# Altium footprint library KF terminal block.PcbLib: 57 footprints (part 4 of 4)
Each footprint in its own frame and in the unit in brackets; x right, y up, seen from the top. Pads: shape width x height; smd on the part's side, far side on the other; paste and mask are expansions set on the pad; w line width, h text height; cw(c..) or ccw(c..) is an arc to the next point about the centre after c.
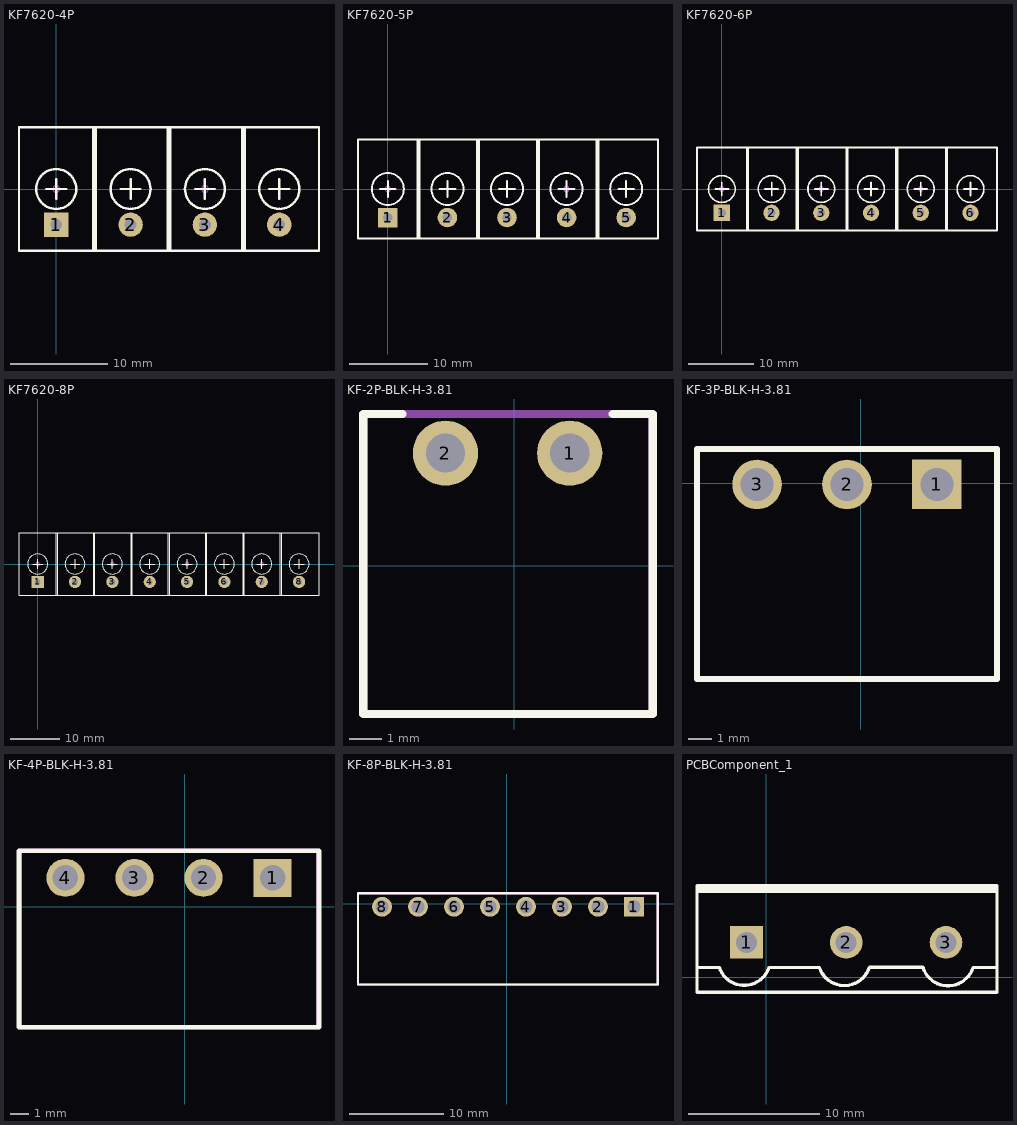
[diagram p3: the footprints below, top view; thin cyan lines are the x and y axes]

## KF7620-4P [mm] "30.5*12*12mm(ï¿½ï¿½ï¿½ï¿½ï¿½)"
pads (4):
  rect 2.5x2.5 hole 1.2: 1(0,-3.65)
  round 2.5 hole 1.2: 2(7.62,-3.65) 3(15.24,-3.65) 4(22.86,-3.65)
Top Overlay:
  circle w0.254: c7.62,0 r2.048
  circle w0.254: c0,0 r2.048
  circle w0.254: c15.24,0 r2.048
  circle w0.254: c22.86,0 r2.048
  lines w0.254: -1.016,0 1.016,0 ; 0,-1.016 0,1.016 ; 3.81,-6.35 3.81,6.35 ; 4.064,6.35 4.064,-6.35 4.318,-6.35 ; 6.604,0 8.636,0 ; 7.62,-1.016 7.62,1.016 ; 14.224,0 16.256,0 ; 15.24,-1.016 15.24,1.016 ; 19.05,-6.35 19.05,6.35 ; 19.304,6.35 19.304,-6.35 19.558,-6.35 ; 21.844,0 23.876,0 ; 22.86,-1.016 22.86,1.016 ; -3.81,-6.35 -3.81,6.35 11.684,6.35 11.684,-6.35 -3.81,-6.35 ; 11.43,-6.35 26.924,-6.35 26.924,6.35 11.43,6.35 11.43,-6.35
Mechanical 15:
  circle w0.05: c0,0 r0.35
  circle w0.05: c15.24,0 r0.35
  lines w0.05: -0.5,0 0.5,0 ; 0,-0.5 0,0.5 ; 14.74,0 15.74,0 ; 15.24,-0.5 15.24,0.5
3D body "KF7620.STEP": height 12.45, standoff -3.45, extent -3.81,-6.2 4.51,6.2
3D body "KF7620.STEP": height 12.45, standoff -3.45, extent 3.81,-6.2 12.13,6.2
3D body "KF7620.STEP": height 12.45, standoff -3.45, extent 19.05,-6.2 27.37,6.2
3D body "KF7620.STEP": height 12.45, standoff -3.45, extent 11.43,-6.2 19.75,6.2

## KF7620-5P [mm] "38.1*12*12mm(ï¿½ï¿½ï¿½ï¿½ï¿½)"
pads (5):
  rect 2.5x2.5 hole 1.2: 1(0,-3.65)
  round 2.5 hole 1.2: 2(7.62,-3.65) 3(15.24,-3.65) 4(22.86,-3.65) 5(30.48,-3.65)
Top Overlay:
  circle w0.254: c22.86,0 r2.048
  circle w0.254: c30.48,0 r2.048
  circle w0.254: c0,0 r2.048
  circle w0.254: c7.62,0 r2.048
  circle w0.254: c15.24,0 r2.048
  lines w0.254: -1.016,0 1.016,0 ; 0,-1.016 0,1.016 ; 3.81,-6.35 3.81,6.35 ; 4.064,6.35 4.064,-6.35 4.318,-6.35 ; 6.604,0 8.636,0 ; 7.62,-1.016 7.62,1.016 ; 11.43,-6.35 11.43,6.35 ; 14.224,0 16.256,0 ; 15.24,-1.016 15.24,1.016 ; 21.844,0 23.876,0 ; 22.86,-1.016 22.86,1.016 ; 26.67,-6.35 26.67,6.35 ; 26.924,6.35 26.924,-6.35 27.178,-6.35 ; 29.464,0 31.496,0 ; 30.48,-1.016 30.48,1.016 ; 11.684,-6.35 11.684,6.35 ; 11.684,-6.35 -3.81,-6.35 -3.81,6.35 11.684,6.35 ; 11.684,-6.35 19.304,-6.35 19.304,6.35 11.684,6.35 ; 19.05,-6.35 34.544,-6.35 34.544,6.35 19.05,6.35 19.05,-6.35
Mechanical 15:
  circle w0.05: c22.86,0 r0.35
  circle w0.05: c0,0 r0.35
  lines w0.05: -0.5,0 0.5,0 ; 0,-0.5 0,0.5 ; 22.36,0 23.36,0 ; 22.86,-0.5 22.86,0.5
3D body "KF7620.STEP": height 12.45, standoff -3.45, extent 26.67,-6.2 34.99,6.2
3D body "KF7620.STEP": height 12.45, standoff -3.45, extent 19.05,-6.2 27.37,6.2
3D body "KF7620.STEP": height 12.45, standoff -3.45, extent 3.81,-6.2 12.13,6.2
3D body "KF7620.STEP": height 12.45, standoff -3.45, extent -3.81,-6.2 4.51,6.2
3D body "KF7620.STEP": height 12.45, standoff -3.45, extent 11.43,-6.2 19.75,6.2

## KF7620-6P [mm] "45.7*12*12mm(ï¿½ï¿½ï¿½ï¿½ï¿½)"
pads (6):
  rect 2.5x2.5 hole 1.2: 1(0,-3.65)
  round 2.5 hole 1.2: 2(7.62,-3.65) 3(15.24,-3.65) 4(22.86,-3.65) 5(30.48,-3.65) 6(38.1,-3.65)
Top Overlay:
  circle w0.254: c30.48,0 r2.048
  circle w0.254: c38.1,0 r2.048
  circle w0.254: c7.62,0 r2.048
  circle w0.254: c0,0 r2.048
  circle w0.254: c15.24,0 r2.048
  circle w0.254: c22.86,0 r2.048
  lines w0.254: -1.016,0 1.016,0 ; 0,-1.016 0,1.016 ; 3.81,-6.35 3.81,6.35 ; 4.064,6.35 4.064,-6.35 4.318,-6.35 ; 6.604,0 8.636,0 ; 7.62,-1.016 7.62,1.016 ; 14.224,0 16.256,0 ; 15.24,-1.016 15.24,1.016 ; 19.05,-6.35 19.05,6.35 ; 19.304,6.35 19.304,-6.35 19.558,-6.35 ; 21.844,0 23.876,0 ; 22.86,-1.016 22.86,1.016 ; 29.464,0 31.496,0 ; 30.48,-1.016 30.48,1.016 ; 34.29,-6.35 34.29,6.35 ; 34.544,6.35 34.544,-6.35 34.798,-6.35 ; 37.084,0 39.116,0 ; 38.1,-1.016 38.1,1.016 ; -3.81,-6.35 -3.81,6.35 11.684,6.35 11.684,-6.35 -3.81,-6.35 ; 11.43,-6.35 26.924,-6.35 26.924,6.35 11.43,6.35 11.43,-6.35 ; 26.67,-6.35 42.164,-6.35 42.164,6.35 26.67,6.35 26.67,-6.35
Mechanical 15:
  circle w0.05: c30.48,0 r0.35
  circle w0.05: c0,0 r0.35
  circle w0.05: c15.24,0 r0.35
  lines w0.05: -0.5,0 0.5,0 ; 0,-0.5 0,0.5 ; 14.74,0 15.74,0 ; 15.24,-0.5 15.24,0.5 ; 29.98,0 30.98,0 ; 30.48,-0.5 30.48,0.5
3D body "KF7620.STEP": height 12.45, standoff -3.45, extent 34.29,-6.2 42.61,6.2
3D body "KF7620.STEP": height 12.45, standoff -3.45, extent 26.67,-6.2 34.99,6.2
3D body "KF7620.STEP": height 12.45, standoff -3.45, extent -3.81,-6.2 4.51,6.2
3D body "KF7620.STEP": height 12.45, standoff -3.45, extent 3.81,-6.2 12.13,6.2
3D body "KF7620.STEP": height 12.45, standoff -3.45, extent 19.05,-6.2 27.37,6.2
3D body "KF7620.STEP": height 12.45, standoff -3.45, extent 11.43,-6.2 19.75,6.2

## KF7620-8P [mm] "61*12*12mm(ï¿½ï¿½ï¿½ï¿½ï¿½)"
pads (8):
  rect 2.5x2.5 hole 1.2: 1(0,-3.65)
  round 2.5 hole 1.2: 2(7.62,-3.65) 3(15.24,-3.65) 4(22.86,-3.65) 5(30.48,-3.65) 6(38.1,-3.65) 7(45.72,-3.65) 8(53.34,-3.65)
Top Overlay:
  circle w0.254: c53.34,0 r2.048
  circle w0.254: c45.72,0 r2.048
  circle w0.254: c30.48,0 r2.048
  circle w0.254: c38.1,0 r2.048
  circle w0.254: c7.62,0 r2.048
  circle w0.254: c0,0 r2.048
  circle w0.254: c15.24,0 r2.048
  circle w0.254: c22.86,0 r2.048
  lines w0.254: -1.016,0 1.016,0 ; 0,-1.016 0,1.016 ; 3.81,-6.35 3.81,6.35 ; 4.064,6.35 4.064,-6.35 4.318,-6.35 ; 6.604,0 8.636,0 ; 7.62,-1.016 7.62,1.016 ; 14.224,0 16.256,0 ; 15.24,-1.016 15.24,1.016 ; 19.05,-6.35 19.05,6.35 ; 19.304,6.35 19.304,-6.35 19.558,-6.35 ; 21.844,0 23.876,0 ; 22.86,-1.016 22.86,1.016 ; 29.464,0 31.496,0 ; 30.48,-1.016 30.48,1.016 ; 34.29,-6.35 34.29,6.35 ; 34.544,6.35 34.544,-6.35 34.798,-6.35 ; 37.084,0 39.116,0 ; 38.1,-1.016 38.1,1.016 ; 44.704,0 46.736,0 ; 45.72,-1.016 45.72,1.016 ; 49.53,-6.35 49.53,6.35 ; 49.784,6.35 49.784,-6.35 50.038,-6.35 ; 52.324,0 54.356,0 ; 53.34,-1.016 53.34,1.016 ; -3.81,-6.35 -3.81,6.35 11.684,6.35 11.684,-6.35 -3.81,-6.35 ; 11.43,-6.35 26.924,-6.35 26.924,6.35 11.43,6.35 11.43,-6.35 ; 26.67,-6.35 42.164,-6.35 42.164,6.35 26.67,6.35 26.67,-6.35 ; 41.91,-6.35 41.91,6.35 57.404,6.35 57.404,-6.35 41.91,-6.35
Mechanical 15:
  circle w0.05: c45.72,0 r0.35
  circle w0.05: c30.48,0 r0.35
  circle w0.05: c0,0 r0.35
  circle w0.05: c15.24,0 r0.35
  lines w0.05: -0.5,0 0.5,0 ; 0,-0.5 0,0.5 ; 14.74,0 15.74,0 ; 15.24,-0.5 15.24,0.5 ; 29.98,0 30.98,0 ; 30.48,-0.5 30.48,0.5 ; 45.22,0 46.22,0 ; 45.72,-0.5 45.72,0.5
3D body "KF7620.STEP": height 12.45, standoff -3.45, extent 41.91,-6.2 50.23,6.2
3D body "KF7620.STEP": height 12.45, standoff -3.45, extent 49.53,-6.2 57.85,6.2
3D body "KF7620.STEP": height 12.45, standoff -3.45, extent 34.29,-6.2 42.61,6.2
3D body "KF7620.STEP": height 12.45, standoff -3.45, extent 26.67,-6.2 34.99,6.2
3D body "KF7620.STEP": height 12.45, standoff -3.45, extent -3.81,-6.2 4.51,6.2
3D body "KF7620.STEP": height 12.45, standoff -3.45, extent 3.81,-6.2 12.13,6.2
3D body "KF7620.STEP": height 12.45, standoff -3.45, extent 19.05,-6.2 27.37,6.2
3D body "KF7620.STEP": height 12.45, standoff -3.45, extent 11.43,-6.2 19.75,6.2

## KF-2P-BLK-H-3.81 [mm]
pads (2):
  round 2 hole 1.2: 1(1.705,3.458) 2(-2.105,3.458)
Top Overlay:
  lines w0.254: -3.425,4.658 -4.625,4.658 -4.625,-4.542 4.25,-4.542 4.25,4.658 3.025,4.658
Mechanical 13:
  lines w0.254: -4.625,-4.542 -4.625,4.658 4.25,4.658 4.25,-4.542 -4.625,-4.542
3D body "CUI_DEVICES_TBP02R1-381-02BK.step": height 7.3, standoff -3.4, extent -4.38,-4.5 4.03,4.7

## KF-3P-BLK-H-3.81 [mm]
pads (3):
  rect 2.1x2.1 hole 1.4: 1(3.231,-0.054)
  round 2.1 hole 1.4: 2(-0.579,-0.054) 3(-4.389,-0.054)
Top Overlay:
  lines w0.254: -6.939,-8.304 5.781,-8.304 5.781,1.45 -5.689,1.45 -6.939,1.45 -6.939,-8.304
Mechanical 13:
  lines w0.254: -6.939,-8.304 -6.939,1.45 5.781,1.45 5.781,-8.304 -6.939,-8.304
Mechanical 15:
  lines w0.254: -6.939,-8.304 -6.939,1.45 5.781,1.45 5.781,-8.304 -6.939,-8.304
3D body "CUI_DEVICES_TBP02R1-381-03BK.step": height 7.2, standoff -3.5, extent -6.685,-8.05 5.535,1.15

## KF-4P-BLK-H-3.81 [mm]
pads (4):
  rect 2.1x2.1 hole 1.4: 1(4.839,1.6)
  round 2.1 hole 1.4: 2(1.029,1.6) 3(-2.781,1.6) 4(-6.591,1.6)
Top Overlay:
  lines w0.254: -9.15,-6.65 7.4,-6.65 7.4,3.1 -7.891,3.1 -9.15,3.1 -9.15,-6.65
Mechanical 13:
  lines w0.254: -9.125,-6.65 -9.125,3.1 7.375,3.1 7.375,-6.65 -9.125,-6.65
Mechanical 15:
  lines w0.254: -9.141,-6.65 -9.141,3.1 7.389,3.1 7.389,-6.65 -9.141,-6.65
3D body "CUI_DEVICES_TBP02R1-381-04BK.step": height 7.2, standoff -3.5, extent -8.865,-6.425 7.165,2.775

## KF-8P-BLK-H-3.81 [mm]
pads (8):
  rect 2.1x2.1 hole 1.4: 1(13.467,-0.329)
  round 2.1 hole 1.4: 2(9.657,-0.329) 3(5.847,-0.329) 4(2.037,-0.329) 5(-1.773,-0.329) 6(-5.583,-0.329) 7(-9.393,-0.329) 8(-13.203,-0.329)
Top Overlay:
  lines w0.254: 14.767,1.075 16,1.075 ; 16,1.075 16,-8.575 -15.75,-8.575 -15.75,1.075 16,1.075
Mechanical 13:
  lines w0.254: -15.75,0.871 -15.75,-8.575 16,-8.575 16,0.871
Mechanical 15:
  lines w0.254: -15.753,-8.579 16.017,-8.579 16.017,1.075 -15.753,1.075 -15.753,-8.579
3D body "CUI_DEVICES_TBP02R1-381-08BK.step": height 7.2, standoff -3.5, extent -15.56,-8.125 15.71,1.075

## PCBComponent_1 [mm]
pads (3):
  rect 2.5x2.5 hole 1.6: 1(-1.5,2.675)
  round 2.5 hole 1.6: 2(6.12,2.675) 3(13.75,2.675)
Top Overlay:
  lines w0.254: -5.259,0.761 -3.587,0.761 ccw(c-1.682,1.396) 0.223,0.761 ; -5.25,6.561 17.6,6.561 ; -5.25,6.789 17.53,6.789 ; 0.249,0.761 4.05,0.75 ; 4.075,0.75 ccw(c5.98,1.385) 7.885,0.75 ; 7.9,0.775 10.1,0.775 ; 8.453,0.77 11.975,0.77 ; 12,0.725 ccw(c13.905,1.36) 15.81,0.725 ; 15.824,0.761 17.625,0.756 ; -5.285,-1.125 -5.285,6.993 17.65,6.993 17.65,-1.125 -5.285,-1.125
3D body "KF2EDGK-1P.STEP": height 12.3, standoff -2.8, extent 2.361,-1.046 9.981,6.904
3D body "KF2EDGK-1P.STEP": height 12.3, standoff -2.8, extent -5.259,-1.033 2.361,6.917
3D body "KF2EDGK-1P.STEP": height 12.3, standoff -2.8, extent 9.975,-1.046 17.595,6.904